# Altium footprint library IC-ESP32.PcbLib: 7 footprints
Each footprint in its own frame and in the unit in brackets; x right, y up, seen from the top. Pads: shape width x height; smd on the part's side, far side on the other; paste and mask are expansions set on the pad; w line width, h text height; cw(c..) or ccw(c..) is an arc to the next point about the centre after c.
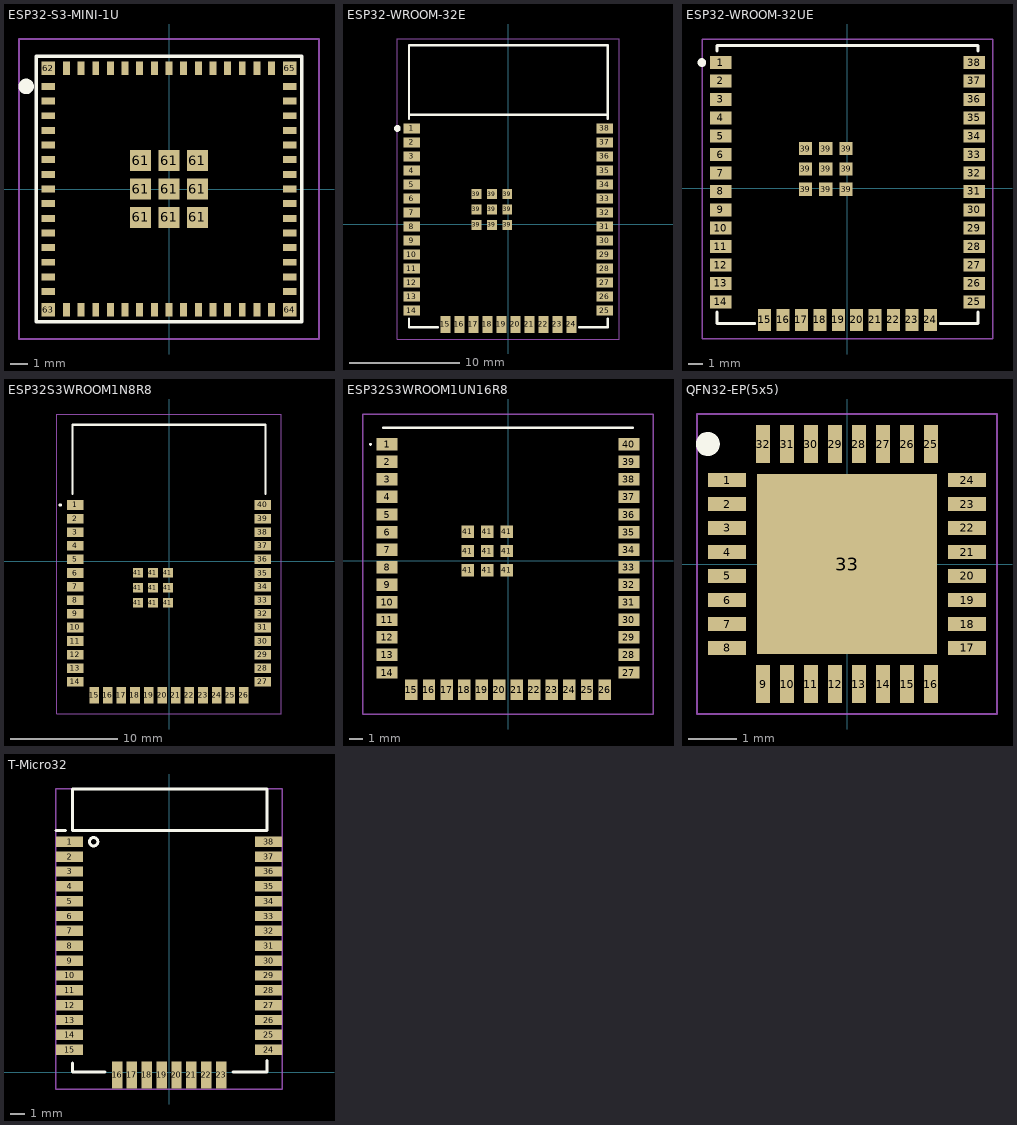
[diagram p0: the footprints below, top view; thin cyan lines are the x and y axes]

## ESP32-S3-MINI-1U [mm]
pads (73):
  rect 0.8x0.4 smd: 1(-7,5.95) 2(-7,5.1) 3(-7,4.25) 4(-7,3.4) 5(-7,2.55) 6(-7,1.7) 7(-7,0.85) 8(-7,0) 9(-7,-0.85) 10(-7,-1.7) 11(-7,-2.55) 12(-7,-3.4) 13(-7,-4.25) 14(-7,-5.1) 15(-7,-5.95) 31(7,-5.95) 32(7,-5.1) 33(7,-4.25) 34(7,-3.4) 35(7,-2.55) 36(7,-1.7) 37(7,-0.85) 38(7,0) 39(7,0.85) 40(7,1.7) 41(7,2.55) 42(7,3.4) 43(7,4.25) 44(7,5.1) 45(7,5.95)
  rect 0.4x0.8 smd: 16(-5.95,-7) 17(-5.1,-7) 18(-4.25,-7) 19(-3.4,-7) 20(-2.55,-7) 21(-1.7,-7) 22(-0.85,-7) 23(0,-7) 24(0.85,-7) 25(1.7,-7) 26(2.55,-7) 27(3.4,-7) 28(4.25,-7) 29(5.1,-7) 30(5.95,-7) 46(5.95,7) 47(5.1,7) 48(4.25,7) 49(3.4,7) 50(2.55,7) 51(1.7,7) 52(0.85,7) 53(0,7) 54(-0.85,7) 55(-1.7,7) 56(-2.55,7) 57(-3.4,7) 58(-4.25,7) 59(-5.1,7) 60(-5.95,7)
  rect 1.2x1.2 smd: 61(-1.65,-1.65) 61(-1.65,0) 61(-1.65,1.65) 61(0,-1.65) 61(0,0) 61(0,1.65) 61(1.65,-1.65) 61(1.65,0) 61(1.65,1.65)
  rect 0.8x0.8 smd: 62(-7,7) 63(-7,-7) 64(7,-7) 65(7,7)
Top Overlay:
  lines w0.2: -7.7,-7.7 7.7,-7.7 7.7,7.7 -7.7,7.7 -7.7,-7.7
  lines w0.5: -8.085,5.937 cw(c-8.284,5.95) -8.084,5.95
Top Value:
  text "'.Comment'" at -3.955,-0.858 h3
Top Designator:
  text "'.Designator'" at -8.592,-0.676 h3
Top Courtyard:
  lines w0.1: -8.7,-8.7 8.7,-8.7 8.7,8.7 -8.7,8.7 -8.7,-8.7
3D body "ESP32-S3-MINI-1U-N8.stp": height 2.55, standoff 0, extent -7.7,-7.7 7.7,7.7

## ESP32-WROOM-32E [mm] "SMD 18X25.5"
pads (47):
  rect 1.5x0.9 smd: 1(-8.75,8.66) 2(-8.75,7.39) 3(-8.75,6.12) 4(-8.75,4.85) 5(-8.75,3.58) 6(-8.75,2.31) 7(-8.75,1.04) 8(-8.75,-0.23) 9(-8.75,-1.5) 10(-8.75,-2.77) 11(-8.75,-4.04) 12(-8.75,-5.31) 13(-8.75,-6.58) 14(-8.75,-7.85) 25(8.75,-7.85) 26(8.75,-6.58) 27(8.75,-5.31) 28(8.75,-4.04) 29(8.75,-2.77) 30(8.75,-1.5) 31(8.75,-0.23) 32(8.75,1.04) 33(8.75,2.31) 34(8.75,3.58) 35(8.75,4.85) 36(8.75,6.12) 37(8.75,7.39) 38(8.75,8.66)
  rect 0.9x1.5 smd: 15(-5.715,-9.1) 16(-4.445,-9.1) 17(-3.175,-9.1) 18(-1.905,-9.1) 19(-0.635,-9.1) 20(0.635,-9.1) 21(1.905,-9.1) 22(3.175,-9.1) 23(4.445,-9.1) 24(5.715,-9.1)
  rect 0.9x0.9 smd: 39(-2.9,-0.08) 39(-2.9,1.32) 39(-2.9,2.72) 39(-1.5,-0.08) 39(-1.5,1.32) 39(-1.5,2.72) 39(-0.1,-0.08) 39(-0.1,1.32) 39(-0.1,2.72)
Top Overlay:
  lines w0.2: -9,-8.55 -9,-9.35 -6.4,-9.35 ; -9,9.525 -9,16.2 9,16.2 9,9.525 ; -9,9.906 9,9.906 ; 6.4,-9.35 9,-9.35 9,-8.55
  lines w0.5: -10.1,8.66 ccw(c-10.05,8.66) -10,8.66 ccw(c-10.05,8.66) -10.1,8.66
Top Value:
  text "'.Comment'" at -3.955,-0.811 h3
Top Designator:
  text "'.Designator'" at -8.592,-0.629 h3
Top Courtyard:
  lines w0.1: -10.05,-10.414 -10.05,16.764 10.033,16.764 10.033,-10.414 -10.05,-10.414
3D body "ESP32-WROOM-32UE_M113EH6400UH3Q0_.stp": height 3.3, standoff 0, extent -9.017,-9.398 8.983,16.102

## ESP32-WROOM-32UE [mm] "SMD 18X19.2MM"
pads (47):
  rect 1.5x0.9 smd: 1(-8.75,8.66) 2(-8.75,7.39) 3(-8.75,6.12) 4(-8.75,4.85) 5(-8.75,3.58) 6(-8.75,2.31) 7(-8.75,1.04) 8(-8.75,-0.23) 9(-8.75,-1.5) 10(-8.75,-2.77) 11(-8.75,-4.04) 12(-8.75,-5.31) 13(-8.75,-6.58) 14(-8.75,-7.85) 25(8.75,-7.85) 26(8.75,-6.58) 27(8.75,-5.31) 28(8.75,-4.04) 29(8.75,-2.77) 30(8.75,-1.5) 31(8.75,-0.23) 32(8.75,1.04) 33(8.75,2.31) 34(8.75,3.58) 35(8.75,4.85) 36(8.75,6.12) 37(8.75,7.39) 38(8.75,8.66)
  rect 0.9x1.5 smd: 15(-5.715,-9.1) 16(-4.445,-9.1) 17(-3.175,-9.1) 18(-1.905,-9.1) 19(-0.635,-9.1) 20(0.635,-9.1) 21(1.905,-9.1) 22(3.175,-9.1) 23(4.445,-9.1) 24(5.715,-9.1)
  rect 0.9x0.9 smd: 39(-2.9,-0.08) 39(-2.9,1.32) 39(-2.9,2.72) 39(-1.5,-0.08) 39(-1.5,1.32) 39(-1.5,2.72) 39(-0.1,-0.08) 39(-0.1,1.32) 39(-0.1,2.72)
Top Overlay:
  lines w0.2: -9,-8.55 -9,-9.35 -6.4,-9.35 ; -9,9.45 -9,9.85 9,9.85 9,9.45 ; 6.4,-9.35 9,-9.35 9,-8.55
  lines w0.5: -10.1,8.66 cw(c-10.05,8.66) -10,8.66 cw(c-10.05,8.66) -10.1,8.66
Top Value:
  text "'.Comment'" at -3.955,-0.811 h3
Top Designator:
  text "'.Designator'" at -8.592,-0.629 h3
Top Courtyard:
  lines w0.1: -10.033,-10.414 10.033,-10.414 10.033,10.287 -10.033,10.287 -10.033,-10.414
3D body "ESP32-WROOM-32UE-N8.stp": height 3.3, standoff 0, extent -9,-9.6 9,9.6

## ESP32S3WROOM1N8R8 [mm]
pads (49):
  rect 1.5x0.9 smd: 1(-8.75,5.26) 2(-8.75,3.99) 3(-8.75,2.72) 4(-8.75,1.45) 5(-8.75,0.18) 6(-8.75,-1.09) 7(-8.75,-2.36) 8(-8.75,-3.63) 9(-8.75,-4.9) 10(-8.75,-6.17) 11(-8.75,-7.44) 12(-8.75,-8.71) 13(-8.75,-9.98) 14(-8.75,-11.25) 27(8.75,-11.25) 28(8.75,-9.98) 29(8.75,-8.71) 30(8.75,-7.44) 31(8.75,-6.17) 32(8.75,-4.9) 33(8.75,-3.63) 34(8.75,-2.36) 35(8.75,-1.09) 36(8.75,0.18) 37(8.75,1.45) 38(8.75,2.72) 39(8.75,3.99) 40(8.75,5.26)
  rect 0.9x1.5 smd: 15(-6.985,-12.5) 16(-5.715,-12.5) 17(-4.445,-12.5) 18(-3.175,-12.5) 19(-1.905,-12.5) 20(-0.635,-12.5) 21(0.635,-12.5) 22(1.905,-12.5) 23(3.175,-12.5) 24(4.445,-12.5) 25(5.715,-12.5) 26(6.985,-12.5)
  rect 0.9x0.9 smd: 41(-2.9,-3.86) 41(-2.9,-2.46) 41(-2.9,-1.06) 41(-1.5,-3.86) 41(-1.5,-2.46) 41(-1.5,-1.06) 41(-0.1,-3.86) 41(-0.1,-2.46) 41(-0.1,-1.06)
Top Overlay:
  lines w0.2: -9,6.3 -9,12.75 9,12.75 9,6.3 ; -10.2,5.26 ccw(c-10.15,5.26) -10.1,5.26 ; -10.2,5.26 cw(c-10.15,5.26) -10.1,5.26 ; -10.2,5.26 ccw(c-10.15,5.26) -10.1,5.26
Top Value:
  text "'.Comment'" at -3.955,-0.731 h3
Top Designator:
  text "'.Designator'" at -8.592,-0.549 h3
Top Courtyard:
  lines w0.1: -10.5,-14.25 -10.5,13.75 10.5,13.75 10.5,-14.25 -10.5,-14.25
3D body "ESP32-S3-WROOM-1-N8R8.stp": height 3.1, standoff 0, extent -9,-13 9,12.5

## ESP32S3WROOM1UN16R8 [mm]
pads (49):
  rect 1.5x0.9 smd: 1(-8.75,8.41) 2(-8.75,7.14) 3(-8.75,5.87) 4(-8.75,4.6) 5(-8.75,3.33) 6(-8.75,2.06) 7(-8.75,0.79) 8(-8.75,-0.48) 9(-8.75,-1.75) 10(-8.75,-3.02) 11(-8.75,-4.29) 12(-8.75,-5.56) 13(-8.75,-6.83) 14(-8.75,-8.1) 27(8.75,-8.1) 28(8.75,-6.83) 29(8.75,-5.56) 30(8.75,-4.29) 31(8.75,-3.02) 32(8.75,-1.75) 33(8.75,-0.48) 34(8.75,0.79) 35(8.75,2.06) 36(8.75,3.33) 37(8.75,4.6) 38(8.75,5.87) 39(8.75,7.14) 40(8.75,8.41)
  rect 0.9x1.5 smd: 15(-6.985,-9.35) 16(-5.715,-9.35) 17(-4.445,-9.35) 18(-3.175,-9.35) 19(-1.905,-9.35) 20(-0.635,-9.35) 21(0.635,-9.35) 22(1.905,-9.35) 23(3.175,-9.35) 24(4.445,-9.35) 25(5.715,-9.35) 26(6.985,-9.35)
  rect 0.9x0.9 smd: 41(-2.9,-0.71) 41(-2.9,0.69) 41(-2.9,2.09) 41(-1.5,-0.71) 41(-1.5,0.69) 41(-1.5,2.09) 41(-0.1,-0.71) 41(-0.1,0.69) 41(-0.1,2.09)
Top Overlay:
  lines w0.1: -10,8.4 cw(c-9.95,8.4) -9.9,8.4 cw(c-9.95,8.4) -10,8.4
  lines w0.2: -9,9.6 9,9.6
Top Value:
  text "'.Comment'" at -3.955,-0.731 h3
Top Designator:
  text "'.Designator'" at -8.592,-0.549 h3
Top Courtyard:
  lines w0.1: -10.5,-11.1 -10.5,10.6 10.5,10.6 10.5,-11.1 -10.5,-11.1
3D body "ESP32-S3-WROOM-1U-N16R8.stp": height 3.35, standoff 0, extent -9,-9.6 9,9.6

## QFN32-EP(5x5) [mm] "ESP32-C3FH4"
pads (33):
  rect 0.8x0.3 smd: 1(-2.5,1.75) 2(-2.5,1.25) 3(-2.5,0.75) 4(-2.5,0.25) 5(-2.5,-0.25) 6(-2.5,-0.75) 7(-2.5,-1.25) 8(-2.5,-1.75) 17(2.5,-1.75) 18(2.5,-1.25) 19(2.5,-0.75) 20(2.5,-0.25) 21(2.5,0.25) 22(2.5,0.75) 23(2.5,1.25) 24(2.5,1.75)
  rect 0.3x0.8 smd: 9(-1.75,-2.5) 10(-1.25,-2.5) 11(-0.75,-2.5) 12(-0.25,-2.5) 13(0.25,-2.5) 14(0.75,-2.5) 15(1.25,-2.5) 16(1.75,-2.5) 25(1.75,2.5) 26(1.25,2.5) 27(0.75,2.5) 28(0.25,2.5) 29(-0.25,2.5) 30(-0.75,2.5) 31(-1.25,2.5) 32(-1.75,2.5)
  rect 3.75x3.75 smd: 33(0,0)
Top Overlay:
  circle w0.25: c-2.9,2.5 r0.125
Top Value:
  text "'.Comment'" at -3.294,-0.596 h2.5
Top Designator:
  text "'.Designator'" at -7.156,-0.444 h2.5
Top Courtyard:
  lines w0.05: -3.125,-3.125 -3.125,3.125 3.125,3.125 3.125,-3.125 -3.125,-3.125
3D body "ESP32-C3FH4.stp": height 0.9, standoff 0, extent -2.55,-2.55 2.55,2.55

## T-Micro32 [mm] "SMD 13X18.9MM"
pads (38):
  rect 1.8x0.7 smd: 1(-6.7,15.5) 2(-6.7,14.5) 3(-6.7,13.5) 4(-6.7,12.5) 5(-6.7,11.5) 6(-6.7,10.5) 7(-6.7,9.5) 8(-6.7,8.5) 9(-6.7,7.5) 10(-6.7,6.5) 11(-6.7,5.5) 12(-6.7,4.5) 13(-6.7,3.5) 14(-6.7,2.5) 15(-6.7,1.5) 24(6.7,1.5) 25(6.7,2.5) 26(6.7,3.5) 27(6.7,4.5) 28(6.7,5.5) 29(6.7,6.5) 30(6.7,7.5) 31(6.7,8.5) 32(6.7,9.5) 33(6.7,10.5) 34(6.7,11.5) 35(6.7,12.5) 36(6.7,13.5) 37(6.7,14.5) 38(6.7,15.5)
  rect 0.7x1.8 smd: 16(-3.5,-0.2) 17(-2.5,-0.2) 18(-1.5,-0.2) 19(-0.5,-0.2) 20(0.5,-0.2) 21(1.5,-0.2) 22(2.5,-0.2) 23(3.5,-0.2)
Top Overlay:
  circle w0.2: c-5.08,15.5 r0.284
  lines w0.2: -7.62,16.256 -6.985,16.256 ; -6.498,0.622 -6.498,0 -4.326,0 ; 4.31,0 6.596,0 6.596,0.762 ; -6.485,16.256 -6.485,19.05 6.596,19.05 6.596,16.256 -6.485,16.256
Top Value:
  text "'.Comment'" at -3.963,8.46 h3
Top Designator:
  text "'.Designator'" at -8.6,8.642 h3
Top Courtyard:
  lines w0.1: -7.62,-1.143 7.612,-1.143 7.612,19.05 -7.62,19.05 -7.62,-1.143
3D body "ap-700.stp": height 3.2, standoff 0.05, extent -6.525,-0.008 6.531,18.941